# EAGLE library part SI5351 (library FansElectronics-Modul)
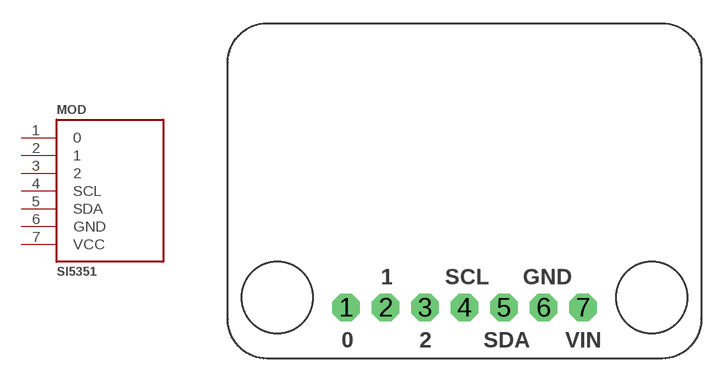
[diagram p16: symbol with the pads of SI5351; footprint SI5351]

Designator prefix MOD

## SI5351  [SI5351]
1  0
2  1
3  2
4  SCL
5  SDA
6  GND  pwr
7  VCC  pwr

## Footprint SI5351 (pad centres in mm)
drill 1 pad 1.778 octagon: 1 -7.62,-7.62; 2 -5.08,-7.62; 3 -2.54,-7.62; 4 0,-7.62; 5 2.54,-7.62; 6 5.08,-7.62; 7 7.62,-7.62